# EAGLE library part 74AHC595T16-13 (library edrtech_lib)
Counter Shift Registers 8B SHIFT REGISTER W/ 8B OUT 2-5.5V Source: Datasheet <https://www.diodes.com/assets/Datasheets/74AHC595.pdf>
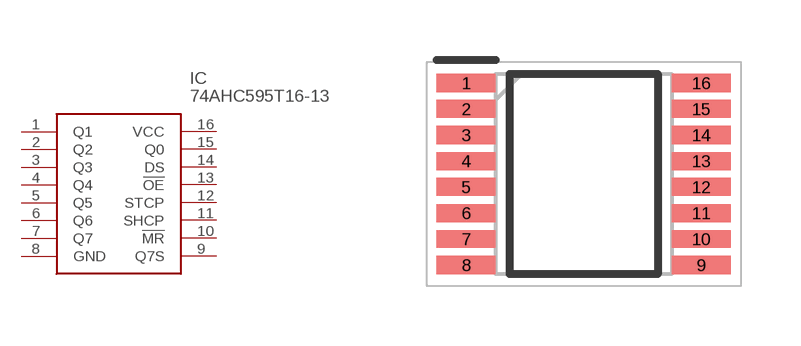
[diagram p25: symbol with the pads of SOP65P640X108-16N; footprint SOP65P640X108-16N]

Designator prefix IC

## 74AHC595T16-13 (DESCRIPTION: Counter Shift Registers 8B SHIFT REGISTER W/ 8B OUT 2-5.5V; HEIGHT: 1.08mm; MANUFACTURER_NAME: Diodes Incorporated; MANUFACTURER_PART_NUMBER: 74AHC595T16-13; MOUSER_PART_NUMBER: 621-74AHC595T16-13; MOUSER_PRICE-STOCK: https://www.mouser.co.uk/ProductDetail/Diodes-Incorporated/74AHC595T16-13?qs=Oxncjon6mbpQZB4llY%252B67Q%3D%3D)  [SOP65P640X108-16N]
1  Q1
2  Q2
3  Q3
4  Q4
5  Q5
6  Q6
7  Q7
8  GND
9  Q7S
10  !MR
11  SHCP
12  STCP
13  !OE
14  DS
15  Q0
16  VCC

## Footprint SOP65P640X108-16N (pad centres in mm)
74HC595T16-13-1
smd 1.475 x 0.45: 1 -2.938,2.275; 2 -2.938,1.625; 3 -2.938,0.975; 4 -2.938,0.325; 5 -2.938,-0.325; 6 -2.938,-0.975; 7 -2.938,-1.625; 8 -2.938,-2.275; 9 2.938,-2.275; 10 2.938,-1.625; 11 2.938,-0.975; 12 2.938,-0.325; 13 2.938,0.325; 14 2.938,0.975; 15 2.938,1.625; 16 2.938,2.275